# Altium footprint library TO-220_VREG.PcbLib: 1 footprints
Each footprint in its own frame and in the unit in brackets; x right, y up, seen from the top. Pads: shape width x height; smd on the part's side, far side on the other; paste and mask are expansions set on the pad; w line width, h text height; cw(c..) or ccw(c..) is an arc to the next point about the centre after c.
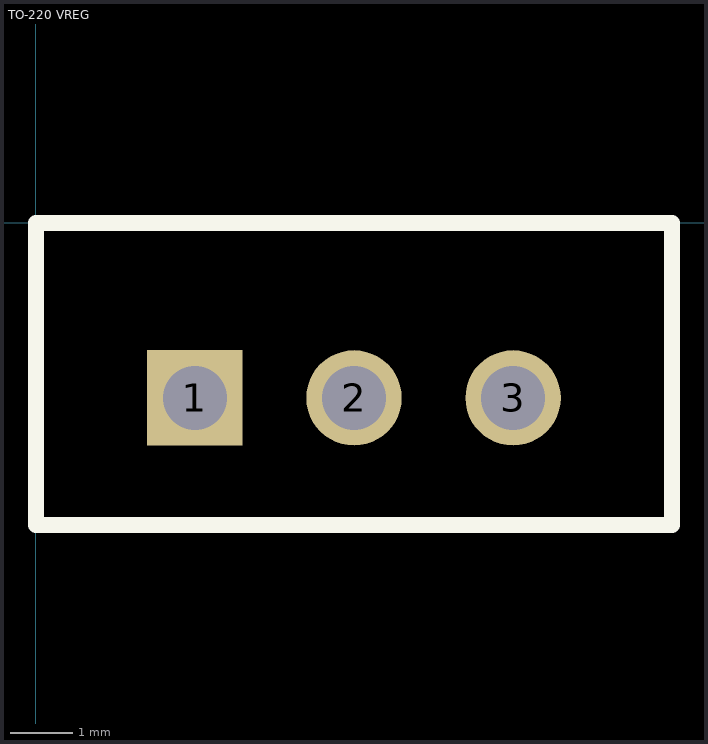
[diagram p0: the footprint, top view; thin cyan lines are the x and y axes]

## TO-220 VREG [mil] "TO-220 PACKAGE VREG"
pads (3):
  rect 60x60 hole 40.16: 1(100,-110)
  round 60 hole 40.16: 2(200,-110) 3(300,-110)
Top Overlay:
  lines w10: 0,-190 0,0 400,0 400,-190 0,-190